# EAGLE library part DRV8876 (library DRV887X)
H-Bridge Motor Driver With Integrated Current Sense and Regulation Peak Current 6A
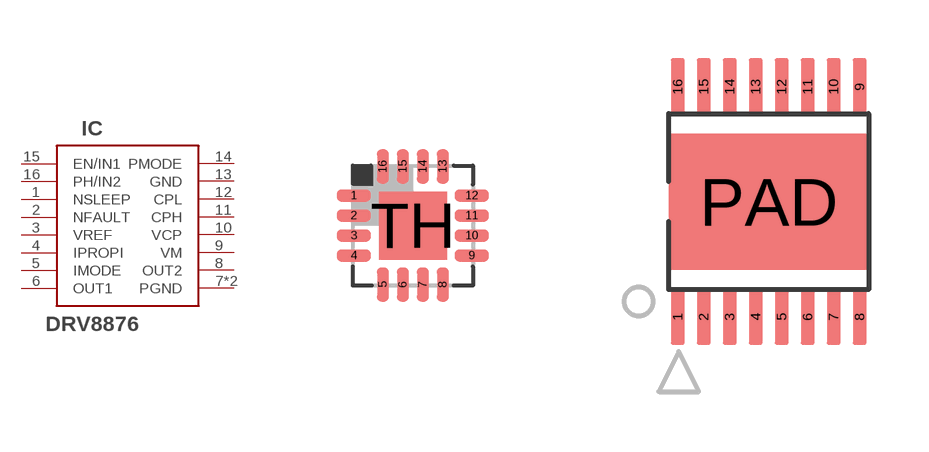
[diagram p0: symbol with the pads of QFN16; footprints QFN16, TSSOP-16]

Designator prefix IC

## DRV8876  [QFN16]
1  NSLEEP
2  NFAULT
3  VREF
4  IPROPI
5  IMODE
6  OUT1
7  PGND
8  OUT2
9  VM
10  VCP
11  CPH
12  CPL
13  GND
14  PMODE
15  EN/IN1
16  PH/IN2
TH  PGND

## DRV8876TSSOP-16  [TSSOP-16]
1  EN/IN1
2  PH/IN2
3  NSLEEP
4  NFAULT
5  VREF
6  IPROPI
7  IMODE
8  OUT1
9  PGND
10  OUT2
11  VM
12  VCP
13  CPH
14  CPL
15  GND
16  PMODE
PAD  PGND

## Footprint QFN16 (pad centres in mm)
RTE (S-PQFP-N16) 3x3 mm Source: www.ti.com .. tpa6132a2 direct path stereo $.65.pdf
smd 0.85 x 0.3: 1 -1.475,0.75; 2 -1.475,0.25; 3 -1.475,-0.25; 4 -1.475,-0.75; 9 1.475,-0.75; 10 1.475,-0.25; 11 1.475,0.25; 12 1.475,0.75
smd 0.3 x 0.85: 5 -0.75,-1.475; 6 -0.25,-1.475; 7 0.25,-1.475; 8 0.75,-1.475; 13 0.75,1.475; 14 0.25,1.475; 15 -0.25,1.475; 16 -0.75,1.475
smd 1.7 x 1.7: TH 0,0

## Footprint TSSOP-16 (pad centres in mm)
smd 0.35 x 1.4: 1 -2.275,-2.875; 2 -1.625,-2.875; 3 -0.975,-2.875; 4 -0.325,-2.875; 5 0.325,-2.875; 6 0.975,-2.875; 7 1.625,-2.875; 8 2.275,-2.875; 9 2.275,2.875; 10 1.625,2.875; 11 0.975,2.875; 12 0.325,2.875; 13 -0.325,2.875; 14 -0.975,2.875; 15 -1.625,2.875; 16 -2.275,2.875
smd 5 x 3.4: PAD 0,0